# Altium schematic symbol library Nuio_Left_Keyboard_Rev_H.SCHLIB: 69 symbols (part 2 of 2)
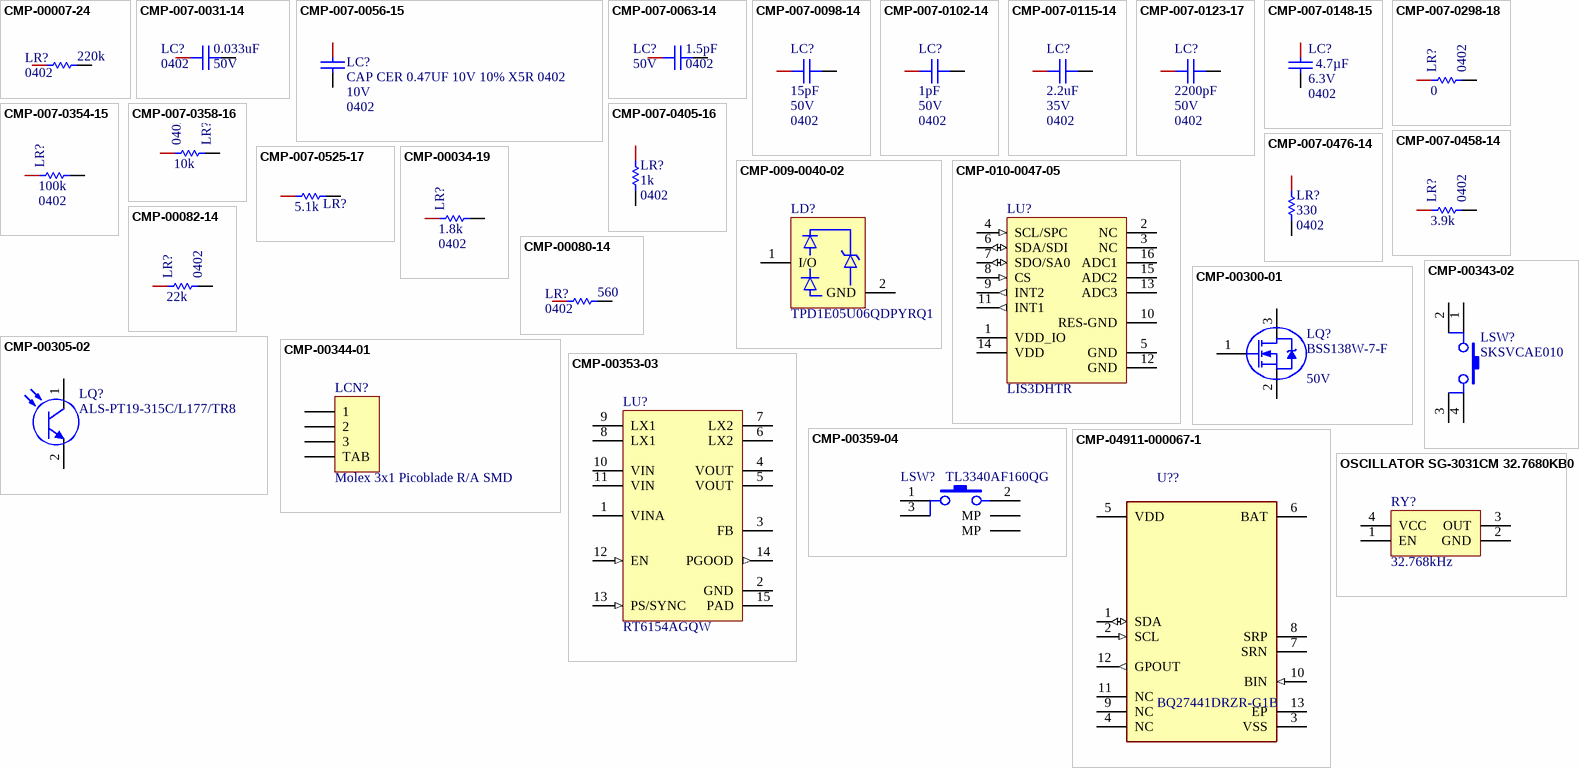
[diagram p2: symbols CMP-00007-24 to OSCILLATOR SG-3031CM 32.7680KB0]

## CMP-00305-02
designator LQ?, comment ALS-PT19-315C/L177/TR8  (no BOM)
SENSOR PHOTO 630NM 2SMD; Manufacturer: Everlight Electronics Co Ltd; Polarity: NPN; Number of Elements: 1; Rise Time: 0.11ms; Max Breakdown Voltage: 5.5V; Lens Style: Flat; Fall Time: 0.22ms; Dark Current: 100nA; Radiation Hardening: No; Packaging: Tape and Reel; Max Operating Temperature: 85°C; Manufacturer Product Number: ALS-PT19-315C/L177/TR8; RoHS Compliant: Yes; Case/Package: SMD/SMT; Mount: Surface Mount; Wavelength: 630nm; Min Operating Temperature: -40°C; Package Quantity: 1; Number of Pins: 2; Collector Emitter Breakdown Voltage: 5.5V
footprint ALS-PT19-315C_L177_TR8
pins: 1 C, 2 E

## CMP-00343-02
designator LSW?, comment SKSVCAE010  (no BOM)
2.8x1.9mm Compact Type with Projection Surface Mount SKSV Series Tact Switch; Manufacturer: Alps Alpine; Voltage Rating (DC): 12 VDC; Current Rating: 50 mA; Manufacturer Part Number: SKSVCAE010; RoHS Compliant: Yes
footprint SKSVCAE010
pins: 1, 2, 3, 4

## CMP-00344-01
designator LCN?, comment Molex 3x1 Picoblade R/A SMD
1.25mm (.049") Pitch PicoBlade Header, Surface Mount, Right Angle, Lead-free, 3 Circuits; Manufacturer Part Number 1: 53261-0371; Manufacturer Series: 53261; Plating: Tin; Number of Positions: 3; Contact Resistance: 20mR; Option: General Purpose; Current Rating: 1A; Voltage Rating: 125V; Mixed Contacts: No; Number of Rows Loaded: 1; Insulation Resistance: 100MR; Gender: Male; Glow Wire Compliant: Non-compliant; Supplier 1: Digikey; Manufacturer 1: Molex; RoHS: Yes; Category: Headers and Wire Housings; Stock 1: 7759; Pricing 1: 1=0.66, 10=0.558, 100=0.4344 (USD); Mounting Technology: Surface Mount,Board; Contact Plating: Tin; Contact Material: Bronze,Tin; Color: Natural; Housing Color: Natural; Housing Material: Nylon; Min Operating Temperature: -40°C; Max Operating Temperature: 85°C; Number of Rows: 1; Packaging: Tape and Reel; Termination: Solder; Orientation: Right Angle; Number of Contacts: 3; Series: PicoBlade; Contact Type: Blade Pin; Contact Gender: Male; Mounting Style: STRAIGHT; Filter Feature: No; Voltage Rating (AC): 125V; Working Voltage: 125V; Number of Circuits: 3; Voltage Rating (DC): 125V; Length: 8.9mm; Pitch: 1.25mm; Depth: 5.2mm; Radiation Hardening: No; RoHS Compliant: Yes; Flammability Rating: 5813Flammability; MIL Conformance: No; DIN Conformance: No; IEC Conformance: No; Reach SVHC Compliant: Unknown; Lead Free: Lead Free; Supplier Part Number 1: WM7621CT-ND
footprint Molex 3x1 Picoblade R_A SMD
pins: 0 TAB, 1, 2, 3

## CMP-00353-03
designator LU?, comment RT6154AGQW
IC REG BCK BST ADJ 4A 14WDFN; Manufacturer: Richtek USA Inc.; Min Input Voltage: 1.8V; Switching Frequency: 2.4MHz; Topology: Buck-Boost; Number of Outputs: 1; Output Type: Adjustable; Output Configuration: Positive; Max Output Voltage: 5.5V; Synchronous Rectifier: Yes; Output Current: 4A; Mount: Surface Mount; Manufacturer Part Number: RT6154AGQW; RoHS Compliant: Yes; Number of Pins: 14; Max Operating Temperature: 85°C; Min Operating Temperature: -40°C; REACH SVHC: No SVHC; Max Input Voltage: 5.5V; ManufacturerPartNumbers: RT6154AGQW; Min Output Voltage: 1.8V
footprint PSON50P300X80_HS-15N (PSON, 14-Leads, Body 3.95x3.00mm, Pitch 0.50mm, Thermal Pad 2.85x1.58mm, IPC Medium Density)
pins: 1 VINA (power), 2 GND (power), 3 FB, 4 VOUT (power), 5 VOUT (power), 6 LX2, 7 LX2, 8 LX1, 9 LX1, 10 VIN (power), 11 VIN (power), 12 EN (in), 13 PS/SYNC (in), 14 PGOOD (out), 15 PAD (power)

## CMP-00359-04
designator LSW?, comment TL3340AF160QG
SWITCH TACTILE SPST-NO 0.05A 12V; Current Rating: 50mA; Operating Force: 160gf; Actuator Length: 0.85mm; Electrical Life: 100000Cycles; Switch Travel: 0.2mm; Switch Function: Off-Mom; Actuator Type: Standard; Actuator Material: Polyphthalamide; Max Operating Temperature: 85°C; Min Operating Temperature: -35°C; Packaging: Tape and Reel; Mechanical Life: 100000Cycles; Contact Plating: Stainless Steel,Silver; Package Quantity: 1; Series: TL3340; Contact Material: Stainless Steel,Silver; Mount: Surface Mount
footprint TL3340AF160QG (SWITCH TACTILE SPST-NO 0.05A 12V)
pins: 1, 2, 3, MP1 MP, MP2 MP

## CMP-04911-000067-1
designator U??, comment BQ27441DRZR-G1B
IC BATT FUEL GAUGE LI-ION 12SON; Manufacturer 1: Texas Instruments; Operating Supply Voltage: 4.5V; Output Current: 500uA; Interface: I2C; Output Voltage: 600mV; Capacity: 8000mAh; Number of Cells: 1; Min Supply Voltage: -300mV; Max Supply Voltage: 6V; Package Quantity: 3000; Packaging: Tape and Reel; Mount: Surface Mount; Min Operating Temperature: -40°C; Max Operating Temperature: 85°C; Contact Plating: Gold; Number of Pins: 12; Lead Free: Lead Free; Manufacturer Part Number 1: BQ27441DRZR-G1B; Supplier 1: Digi Key; Supplier Part Number 1: 296-39942-1-ND
footprint FP-DRZ0012A-MFG
pins: 1 SDA (io), 2 SCL (in), 3 VSS (power), 4 NC, 5 VDD (power), 6 BAT (power), 7 SRN, 8 SRP, 9 NC, 10 BIN (in), 11 NC, 12 GPOUT (out), 13 EP

## OSCILLATOR SG-3031CM 32.7680KB0
designator RY?, comment 32.768kHz
Crystal Oscillator, Surface Mount Type; Manufacturer 1: Epson; Manufacturer Part Number 1: SG-3031CM32.7680KB0; RoHS: Yes; Stock 1: 2026; Pricing 1: 1=1.75, 10=1.672, 50=1.6332, 100=1.3999, 500=1.36098 (USD); RoHS Compliant: Yes; ComponentLink1URL: https://datasheet.octopart.com/SG-3031CM-32.7680KB0-Epson-datasheet-149136028.pdf?src-supplier=Future+Electronics; ComponentLink1Description: https://datasheet.octopart.com/SG-3031CM-32.7680KB0-Epson-datasheet-149136028.pdf?src-supplier=Future+Electronics; Supplier 1: Digikey; Supplier Part Number 1: 114-SG-3031CM32.7680KB0CT-ND
footprint ESPSON SG-3031CM (ESPSON SG-3031CM SERIES 3.2mm X 1.5mm)
pins: 1 EN, 2 GND, 3 OUT, 4 VCC